# Altium footprint library libreriaPcb.PcbLib: 683 footprints (part 1 of 44)
Each footprint in its own frame and in the unit in brackets; x right, y up, seen from the top. Pads: shape width x height; smd on the part's side, far side on the other; paste and mask are expansions set on the pad; w line width, h text height; cw(c..) or ccw(c..) is an arc to the next point about the centre after c.
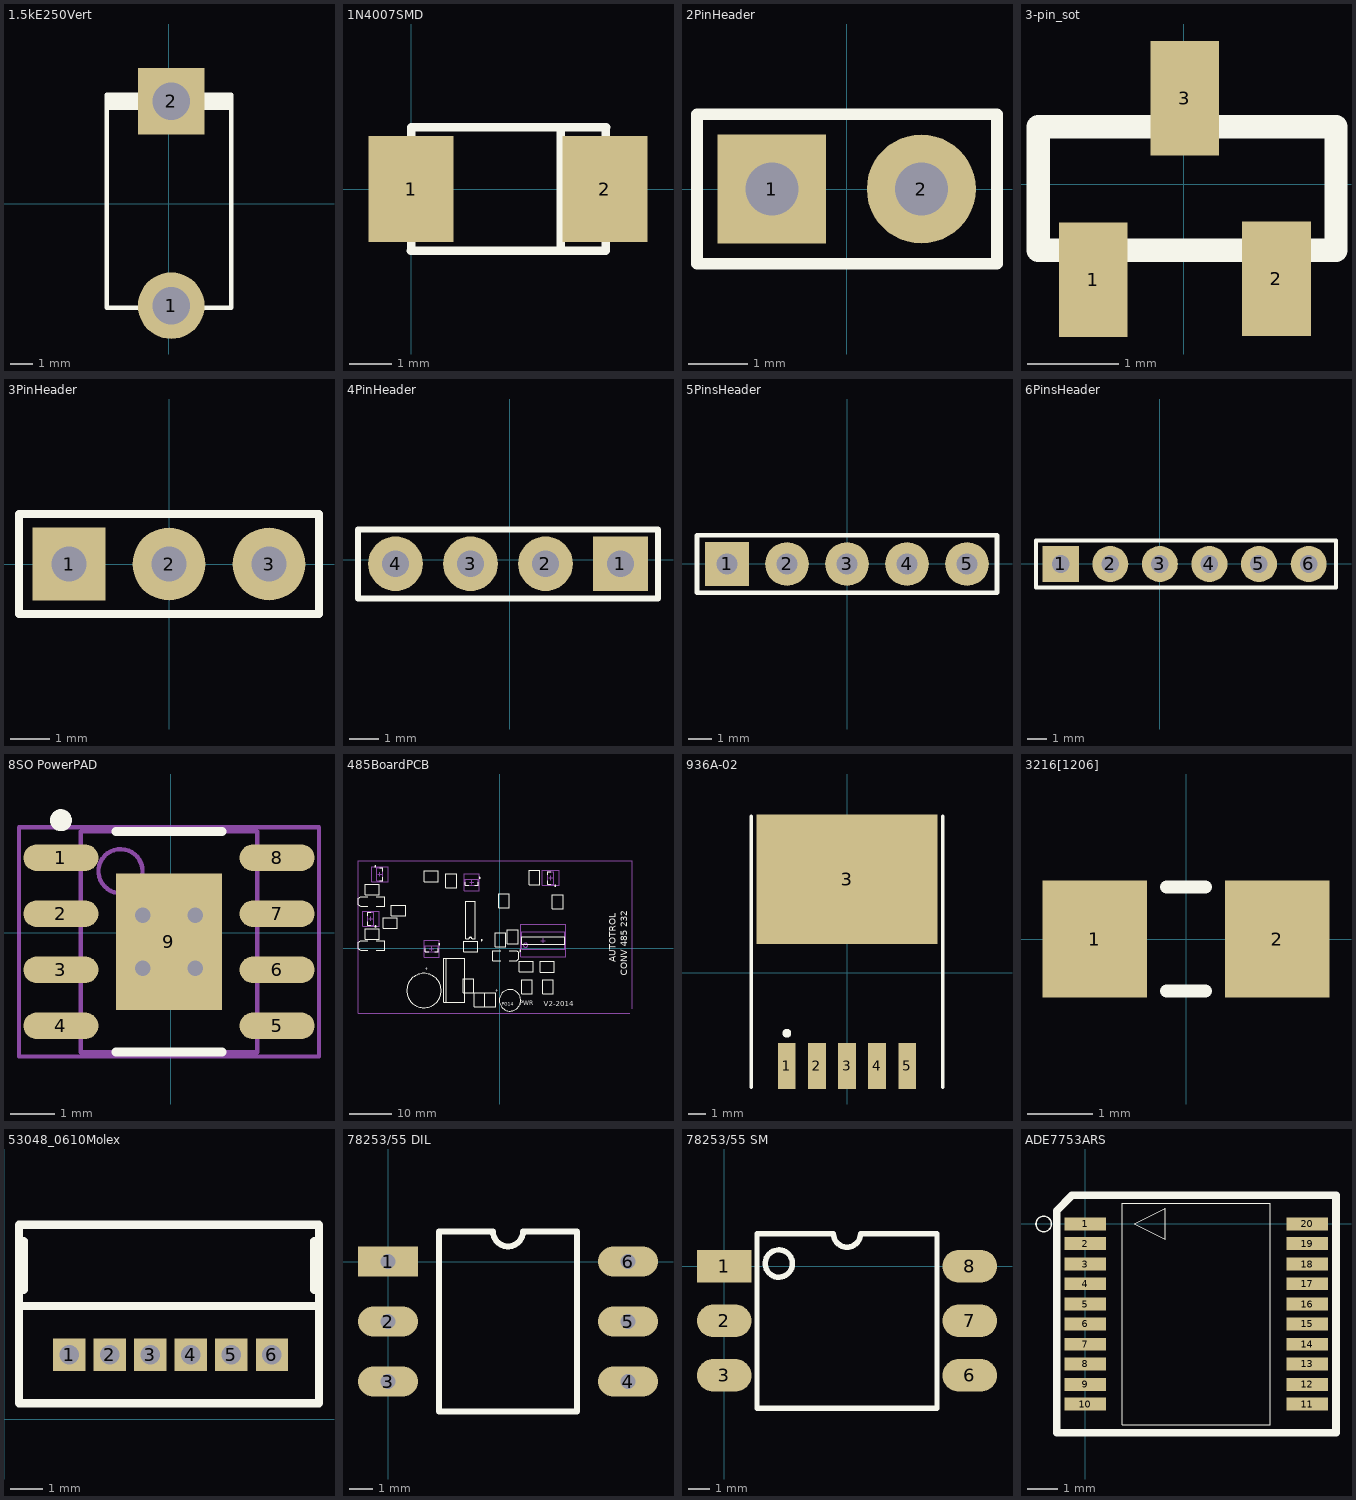
[diagram p0: the footprints below, top view; thin cyan lines are the x and y axes]

## 1.5kE250Vert [mm]
pads (2):
  round 3 hole 1.7: 1(0.101,-4.592)
  rect 3x3 hole 1.7: 2(0.101,4.608)
Top Overlay:
  region: 2.801,4.208 2.801,5.008 -2.799,5.008 -2.799,4.208
  lines w0.2: -2.799,4.908 -2.799,-4.692 2.801,-4.692 2.801,4.908
3D body: height 11, standoff 0, extent -0.649,3.828 0.751,5.226
3D body: height 9, standoff 0, extent -2.498,-7.19 2.702,-1.993
3D body: height 8, standoff 7, extent -2.591,-7.315 2.809,-1.917
3D body: height 11, standoff 9, extent -0.598,-5.292 0.802,-3.892
3D body: height 11.2, standoff 9.8, extent -0.613,-5.102 0.787,4.898

## 1N4007SMD [mm]
pads (2):
  rect 2x2.5 smd: 1(0,0) 2(4.56,0)
Top Overlay:
  lines w0.2: -0.01,-1.45 4.58,-1.45 4.58,1.45 ; 0,-1.45 0,-0.02 ; 0,0 0,1.45 4.59,1.45 ; 3.52,-1.45 3.52,1.45
3D body: height 3.05, standoff 0, extent -0.11,-1.55 4.69,1.55

## 2PinHeader [mm]
pads (2):
  rect 1.85x1.85 hole 0.9: 1(-1.275,0)
  round 1.85 hole 0.9: 2(1.265,0)
Top Overlay:
  lines w0.2: -2.545,-1.27 2.55,-1.27 2.55,1.27 -2.545,1.27 -2.545,-1.27
3D body: height 6, standoff 0, extent 0.765,-0.5 1.765,0.5
3D body: height 6, standoff 0, extent -1.775,-0.5 -0.775,0.5
3D body: height 1.5, standoff 0, extent -2.645,-1.37 2.65,1.37

## 3-pin_sot [mm]
pads (3):
  rect 0.75x1.25 smd: 1(-0.99,-1.04) 2(1.01,-1.03) 3(0.01,0.94)
Top Overlay:
  lines w0.254: 1.66,-0.416 1.66,-0.72 ; 1.66,-0.72 1.66,0.63 -1.59,0.63 -1.59,-0.02 -1.59,-0.72 1.66,-0.72
3D body: height 1, standoff 0, extent -1.717,-0.847 1.787,0.757

## 3PinHeader [mm]
pads (3):
  rect 1.85x1.85 hole 0.9: 1(-2.55,0)
  round 1.85 hole 0.9: 2(-0.01,0) 3(2.53,0)
Top Overlay:
  lines w0.2: -3.82,-1.27 3.8,-1.27 3.8,1.27 -3.82,1.27 -3.82,-1.27
3D body: height 6, standoff 0, extent 2.03,-0.5 3.03,0.5
3D body: height 6, standoff 0, extent -0.51,-0.5 0.49,0.5
3D body: height 6, standoff 0, extent -3.05,-0.5 -2.05,0.5
3D body: height 1.5, standoff 0, extent -3.92,-1.37 3.9,1.37

## 4PinHeader [mm]
pads (4):
  rect 1.85x1.85 hole 0.9: 1(3.749,-0.128)
  round 1.85 hole 0.9: 2(1.209,-0.128) 3(-1.331,-0.128) 4(-3.871,-0.128)
Top Overlay:
  lines w0.2: -5.141,-1.3 5.019,-1.3 5.019,1.025 -5.141,1.025 -5.141,-1.3
3D body: height 1.5, standoff 0, extent -5.241,-1.4 5.119,1.125
3D body: height 6, standoff 0, extent 3.249,-0.628 4.249,0.372
3D body: height 6, standoff 0, extent -4.371,-0.628 -3.371,0.372
3D body: height 6, standoff 0, extent -1.831,-0.628 -0.831,0.372
3D body: height 6, standoff 0, extent 0.709,-0.628 1.709,0.372

## 5PinsHeader [mm]
pads (5):
  rect 1.85x1.85 hole 0.9: 1(-5.087,-0.012)
  round 1.85 hole 0.9: 2(-2.547,-0.012) 3(-0.007,-0.012) 4(2.533,-0.012) 5(5.073,-0.012)
Top Overlay:
  lines w0.2: -6.357,-1.225 -6.357,1.2 6.343,1.2 6.343,-1.225 -6.357,-1.225
3D body: height 1.5, standoff 0, extent -6.457,-1.35 6.443,1.275
3D body: height 6, standoff 0, extent -5.587,-0.512 -4.587,0.488
3D body: height 6, standoff 0, extent -3.047,-0.512 -2.047,0.488
3D body: height 6, standoff 0, extent -0.507,-0.512 0.493,0.488
3D body: height 6, standoff 0, extent 2.033,-0.512 3.033,0.488
3D body: height 6, standoff 0, extent 4.573,-0.512 5.573,0.488

## 6PinsHeader [mm]
pads (6):
  rect 1.85x1.85 hole 0.9: 1(-5.087,-0.012)
  round 1.85 hole 0.9: 2(-2.547,-0.012) 3(-0.007,-0.012) 4(2.533,-0.012) 5(5.073,-0.012) 6(7.625,-0.012)
Top Overlay:
  lines w0.2: -6.357,-1.225 -6.357,1.2 9.025,1.2 9.025,-1.225 -6.357,-1.225
3D body: height 6, standoff 0, extent 7.125,-0.512 8.125,0.488
3D body: height 1.5, standoff 0, extent -6.457,-1.35 9.15,1.275
3D body: height 6, standoff 0, extent -5.587,-0.512 -4.587,0.488
3D body: height 6, standoff 0, extent -3.047,-0.512 -2.047,0.488
3D body: height 6, standoff 0, extent -0.507,-0.512 0.493,0.488
3D body: height 6, standoff 0, extent 2.033,-0.512 3.033,0.488
3D body: height 6, standoff 0, extent 4.573,-0.512 5.573,0.488

## 8SO PowerPAD [mm]
pads (9):
  oval 1.7x0.6 smd: 1(-2.493,1.702) 2(-2.493,0.432) 3(-2.493,-0.838) 4(-2.493,-2.108) 5(2.407,-2.108) 6(2.407,-0.838) 7(2.407,0.432) 8(2.407,1.702)
  rect 2.41x3.1 smd: 9(-0.043,-0.203)
via -0.643,0.397 diameter 0.75 hole 0.35
via 0.557,0.397 diameter 0.75 hole 0.35
via 0.557,-0.803 diameter 0.75 hole 0.35
via -0.643,-0.803 diameter 0.75 hole 0.35
Top Overlay:
  circle w0.25: c-2.493,2.552 r0.125
  lines w0.2: -1.243,-2.703 1.157,-2.703 ; -1.243,2.297 1.157,2.297 ; -1.143,2.297 1.057,2.297
Mechanical 13:
  circle w0.1: c-1.143,1.397 r0.5
  lines w0.1: -2.043,-2.703 1.957,-2.703 1.957,2.297 -2.043,2.297 -2.043,-2.703
Mechanical 15:
  lines w0.1: -3.443,-2.803 3.357,-2.803 3.357,2.397 -3.443,2.397 -3.443,-2.803 ; -0.543,-0.203 0.457,-0.203 -0.543,-0.203 ; -0.043,-0.703 -0.043,0.297 -0.043,-0.703
3D body: height 1.68, standoff 0.03, extent -2.043,-2.703 1.957,2.297

## 485BoardPCB [mm]
Top Overlay:
  drawing of 163 lines, arcs and shapes, not listed
  text "AUTOTROL" at 27.183,-3.312 h1.5
  text "CONV 485 232" at 29.85,-6.487 h1.5
  text "V2-2014" at 10.292,-13.599 h1.2
  text "PG14" at 0.513,-13.472 h0.75
  text "PWR" at 4.704,-13.345 h1
  text "+" at -16.748,-5.331 h0.75
  text "+" at -0.884,-9.535 h0.75
Bottom Overlay:
  rectangle: 8.387,0.117 9.911,4.181
  lines w0.2: 18.593,-3.708 27.993,-3.708 ; 18.593,10.292 27.993,10.292 ; 27.993,-12.108 27.993,18.692 ; 30.998,-6.268 cw(c31.693,-6.268) 31.693,-5.573 36.293,-5.573 ; 30.998,12.852 ccw(c31.693,12.852) 31.693,12.157 36.293,12.157 ; 36.298,-5.568 ccw(c36.298,-4.873) 36.993,-4.873 36.993,11.457 ccw(c36.298,11.457) 36.298,12.152 ; 18.593,-12.108 30.993,-12.108 30.993,18.692 18.593,18.692 18.593,-12.108
  lines w0.254: -27.002,-1.97 cw(c-27.637,-1.97) -28.272,-1.97 -30.722,-1.97 -30.722,-9.272 -24.721,-9.272 -24.721,-1.97 -26.921,-1.97 ; -33.055,-16.194 -23.055,-16.194 -23.055,-9.194 -33.055,-9.194 -33.055,-11.694 -33.055,-16.194 ; 3.561,11.674 3.561,18.786 4.069,19.294 6.101,19.294 6.609,18.786 6.609,11.674 6.101,11.166 4.069,11.166 3.561,11.674 ; 7.879,-9.662 10.546,-9.662 10.546,-2.677 7.879,-2.677 7.879,-9.662 ; 7.879,-2.042 7.879,4.943 10.546,4.943 10.546,-2.042 7.879,-2.042 ; 8.387,-9.027 9.911,-9.027 9.911,-4.963 8.387,-4.963 8.387,-9.027 ; 8.387,0.117 8.387,4.181 9.911,4.181 9.911,0.117 8.387,0.117
  text "Solo Rx" at 6.101,-1.788 h1
  text "Tx-Rx" at 6.101,-8.773 h1
  text "GND-VCC" at -1.9,9.007 h1.5
  text "HEMBRA" at 28.707,-0.264 h1.5
  text "1" at 16.618,-2.498 h1.5
  text "5" at 16.515,9.642 h1.5
  text "9" at 26.018,6.947 h1.5
  text "6" at 26.018,-1.363 h1.5
Mechanical 2:
  lines w0.254: 30.382,-15.25 -33.015,-15.25 -33.015,20.437 30.985,20.437 30.985,-14.107
Mechanical 13:
  circle w0.1: c6.065,0.668 r0.5
  lines w0.1: -30.723,5.348 -29.323,5.348 -29.323,8.348 -30.723,8.348 -30.723,5.348 ; -28.635,15.762 -27.235,15.762 -27.235,18.762 -28.635,18.762 -28.635,15.762 ; -17.37,-0.837 -17.37,0.563 -14.37,0.563 -14.37,-0.837 -17.37,-0.837 ; -7.972,14.657 -7.972,16.057 -4.972,16.057 -4.972,14.657 -7.972,14.657 ; 5.165,-0.232 15.165,-0.232 15.165,3.768 5.165,3.768 5.165,-0.232 ; 11.243,14.873 12.643,14.873 12.643,17.873 11.243,17.873 11.243,14.873
Mechanical 15:
  lines w0.1: -30.523,6.848 -29.523,6.848 ; -30.023,6.348 -30.023,7.348 ; -28.435,17.262 -27.435,17.262 ; -27.935,16.762 -27.935,17.762 ; -16.37,-0.137 -15.37,-0.137 ; -15.87,-0.637 -15.87,0.363 ; -6.972,15.357 -5.972,15.357 ; -6.472,14.857 -6.472,15.857 ; 9.665,1.768 10.665,1.768 ; 10.165,1.268 10.165,2.268 ; 11.443,16.373 12.443,16.373 ; 11.943,15.873 11.943,16.873 ; -31.973,5.098 -28.073,5.098 -28.073,8.598 -31.973,8.598 -31.973,5.098 ; -29.885,15.512 -25.985,15.512 -25.985,19.012 -29.885,19.012 -29.885,15.512 ; -17.62,-2.087 -17.62,1.813 -14.12,1.813 -14.12,-2.087 -17.62,-2.087 ; -8.222,13.407 -8.222,17.307 -4.722,17.307 -4.722,13.407 -8.222,13.407 ; 4.915,-1.982 15.415,-1.982 15.415,5.518 4.915,5.518 4.915,-1.982 ; 9.993,14.623 13.893,14.623 13.893,18.123 9.993,18.123 9.993,14.623
3D body: height 10, standoff 0, extent -21.647,-13.915 -13.649,-5.917
3D body: height 1, standoff 0, extent -26.822,5.032 -24.222,6.632
3D body: height 1, standoff 0, extent -24.222,5.032 -23.922,6.632
3D body: height 1, standoff 0, extent -27.122,5.032 -26.822,6.632
3D body: height 1, standoff 0, extent -17.297,15.954 -14.697,17.554
3D body: height 1, standoff 0, extent -14.697,15.954 -14.397,17.554
3D body: height 1, standoff 0, extent -17.597,15.954 -17.297,17.554
3D body: height 1, standoff 0, extent 7.333,15.2 8.933,17.8
3D body: height 1, standoff 0, extent 7.333,14.9 8.933,15.2
3D body: height 1, standoff 0, extent 7.333,17.8 8.933,18.1
3D body: height 1, standoff 0, extent 12.794,9.485 14.394,12.085
3D body: height 1, standoff 0, extent 12.794,12.085 14.394,12.385
3D body: height 1, standoff 0, extent 12.794,9.185 14.394,9.485
3D body: height 1, standoff 0, extent -24.908,7.957 -22.308,9.557
3D body: height 1, standoff 0, extent -25.208,7.957 -24.908,9.557
3D body: height 1, standoff 0, extent -22.308,7.957 -22.008,9.557
3D body: height 1, standoff 0, extent -12.094,14.429 -10.494,17.029
3D body: height 1, standoff 0, extent -12.094,17.029 -10.494,17.329
3D body: height 1, standoff 0, extent -12.094,14.129 -10.494,14.429
3D body: height 1, standoff 0, extent 4.937,-5.124 7.537,-3.524
3D body: height 1, standoff 0, extent 4.637,-5.124 4.937,-3.524
3D body: height 1, standoff 0, extent 7.537,-5.124 7.837,-3.524
3D body: height 1, standoff 0, extent 9.872,-5.132 12.472,-3.532
3D body: height 1, standoff 0, extent 12.472,-5.132 12.772,-3.532
3D body: height 1, standoff 0, extent 9.572,-5.132 9.872,-3.532
3D body: height 1, standoff 0, extent 5.559,-10.336 7.159,-7.736
3D body: height 1, standoff 0, extent 5.559,-7.736 7.159,-7.436
3D body: height 1, standoff 0, extent 5.559,-10.636 7.159,-10.336
3D body: height 1, standoff 0, extent 10.504,-10.318 12.104,-7.718
3D body: height 1, standoff 0, extent 10.504,-10.618 12.104,-10.318
3D body: height 1, standoff 0, extent 10.504,-7.718 12.104,-7.418
3D body "db9hembra.stp": height 13.24, standoff -2.81, extent 18.293,-12.363 36.693,18.947
3D body: height 1, standoff 0, extent -0.376,-2.575 2.926,-0.95
3D body: height 1, standoff 0, extent 0.221,9.739 1.821,12.339
3D body: height 1, standoff 0, extent 0.221,9.439 1.821,9.739
3D body: height 1, standoff 0, extent 0.221,12.339 1.821,12.639
3D body: height 1, standoff 0, extent -8.026,-0.429 -5.426,1.171
3D body: height 1, standoff 0, extent -5.426,-0.429 -5.126,1.171
3D body: height 1, standoff 0, extent -8.326,-0.429 -8.026,1.171
3D body: height 1, standoff 0, extent -31.013,12.906 -28.413,14.506
3D body: height 1, standoff 0, extent -31.313,12.906 -31.013,14.506
3D body: height 1, standoff 0, extent -28.413,12.906 -28.113,14.506
3D body: height 1, standoff 0, extent -30.986,2.492 -28.386,4.092
3D body: height 1, standoff 0, extent -31.286,2.492 -30.986,4.092
3D body: height 1, standoff 0, extent -28.386,2.492 -28.086,4.092
3D body: height 1, standoff 0, extent -31.364,10.074 -28.062,11.699
3D body: height 1, standoff 0, extent -31.364,-0.213 -28.062,1.412
3D body: height 1.75, standoff 0, extent -8.703,2.074 -4.713,10.924
3D body: height 1, standoff 0, extent 2.257,1.348 3.857,3.948
3D body: height 1, standoff 0, extent 2.257,3.948 3.857,4.248
3D body: height 1, standoff 0, extent 2.257,1.048 3.857,1.348
3D body: height 1, standoff 0, extent -0.541,0.595 1.059,3.195
3D body: height 1, standoff 0, extent -0.541,3.195 1.059,3.495
3D body: height 1, standoff 0, extent -0.541,0.295 1.059,0.595
3D body "1890963.stp": height 15, standoff -3.5, extent -33.075,-17.924 -22.505,-8.424
3D body: height 1, standoff 0, extent -8.034,-10.073 -6.434,-7.473
3D body: height 1, standoff 0, extent -8.034,-7.473 -6.434,-7.173
3D body: height 1, standoff 0, extent -8.034,-10.373 -6.434,-10.073
3D body: height 1, standoff 0, extent -5.494,-13.375 -3.894,-10.775
3D body: height 1, standoff 0, extent -5.494,-10.775 -3.894,-10.475
3D body: height 1, standoff 0, extent -5.494,-13.675 -3.894,-13.375
3D body: height 1, standoff 0, extent -2.954,-13.375 -1.354,-10.775
3D body: height 1, standoff 0, extent -2.954,-10.775 -1.354,-10.475
3D body: height 1, standoff 0, extent -2.954,-13.675 -1.354,-13.375
3D body: height 3, standoff 0, extent -30.849,-9.399 -24.594,-1.843
3D body: height 1.1, standoff 0, extent -17.37,-0.837 -14.37,0.563
3D body: height 1.1, standoff 0, extent -30.723,5.348 -29.323,8.348
3D body: height 1.1, standoff 0, extent -7.972,14.657 -4.972,16.057
3D body: height 1.1, standoff 0, extent -28.635,15.762 -27.235,18.762
3D body: height 1.75, standoff 0, extent 5.165,-0.232 15.165,3.768
3D body: height 1.1, standoff 0, extent 11.243,14.873 12.643,17.873

## 936A-02 [mm] "D2-PAK; 5 Leads; Body 14.7 (inc. leads) x 10.2 mm (LxW max)"
height 4.58
pads (6):
  rect 1x2.6 smd: 1(-3.4,-5.275) 2(-1.7,-5.275) 3(0,-5.275) 4(1.7,-5.275) 5(3.4,-5.275)
  rect 10.2x7.3 smd: 3(0,5.275)
Top Overlay:
  circle w0.25: c-3.4,-3.425 r0.125
  lines w0.2: -5.4,-6.475 -5.4,8.825 ; 5.4,-6.475 5.4,8.825

## 3216[1206] [mm] "Chip Resistor; Body 3.2 x 1.6 mm (LxW typ)"
height 2.54
pads (2):
  rect 1.6x1.8 smd: 1(-1.4,0) 2(1.4,0)
Top Overlay:
  lines w0.2: -0.3,-0.8 0.3,-0.8 ; -0.3,0.8 0.3,0.8
3D body: height 1, standoff 0, extent -1.295,-0.8 1.295,0.8
3D body: height 1, standoff 0, extent -1.626,-0.8 -1.295,0.8
3D body: height 1, standoff 0, extent 1.295,-0.8 1.626,0.8

## 53048_0610Molex [mm]
pads (6):
  rect 1x1 hole 0.6: 1(2,2) 2(3.25,2) 3(4.5,2) 4(5.75,2) 5(7,2) 6(8.25,2)
Top Overlay:
  lines w0.254: 0.45,3.5 9.7,3.5 ; 0.6,4 0.6,5.5 ; 9.55,4 9.55,5.5 ; 0.45,0.5 0.45,6 9.7,6 9.7,0.5 0.45,0.5

## 78253/55 DIL [mm]
pads (6):
  rect 2.54x1.27 hole 0.635: 1(0,0)
  oval 2.54x1.27 hole 0.635: 2(0,-2.54) 3(0,-5.08) 4(10.16,-5.08) 5(10.16,-2.54) 6(10.16,0)
Top Overlay:
  lines w0.254: 2.159,-6.35 8.001,-6.35 8.001,1.27 5.715,1.27 cw(c5.08,1.27) 4.445,1.27 2.159,1.27 2.159,-6.35

## 78253/55 SM [mil]
pads (6):
  rect 100x60 smd: 1(0,0)
  oval 100x60 smd: 2(0,-100) 3(0,-200) 6(450,-200) 7(450,-100) 8(450,0)
Top Overlay:
  circle w10: c100,5 r25
  lines w10: 60,-260 390,-260 390,60 250,60 cw(c225,60) 200,60 60,60 60,-260

## ADE7753ARS [mil]
pads (20):
  rect 52.8x16.5 smd: 1(0,0) 2(0,-25.2) 3(0,-51.2) 4(0,-76.4) 5(0,-102.4) 6(0,-127.6) 7(0,-153.6) 8(0,-178.8) 9(0,-204.8) 10(0,-230) 11(283.4,-230) 12(283.4,-204.8) 13(283.4,-178.8) 14(283.4,-153.6) 15(283.4,-127.6) 16(283.4,-102.4) 17(283.4,-76.4) 18(283.4,-51.2) 19(283.4,-25.2) 20(283.4,0)
Top Overlay:
  lines w0.4: -53.15,-9.9 cw(c-53.15,-0.05) -53.15,9.8 cw(c-53.15,-0.05) -53.15,-9.9 ; 47.2,-256.7 236.2,-256.7 236.2,26.7 47.2,26.7 47.2,-256.7 ; 62.2,0 102.3,-19.7 102.3,20 62.2,0
  lines w2: -53.15,-9.9 ccw(c-53.15,-0.05) -53.15,9.8 ccw(c-53.15,-0.05) -53.15,-9.9
  lines w10: -36.6,-266.6 320,-266.6 320,36.6 -17,36.6 -36.6,16.9 -36.6,-266.6